# EAGLE library part SX1231 (library IntegerLabs)
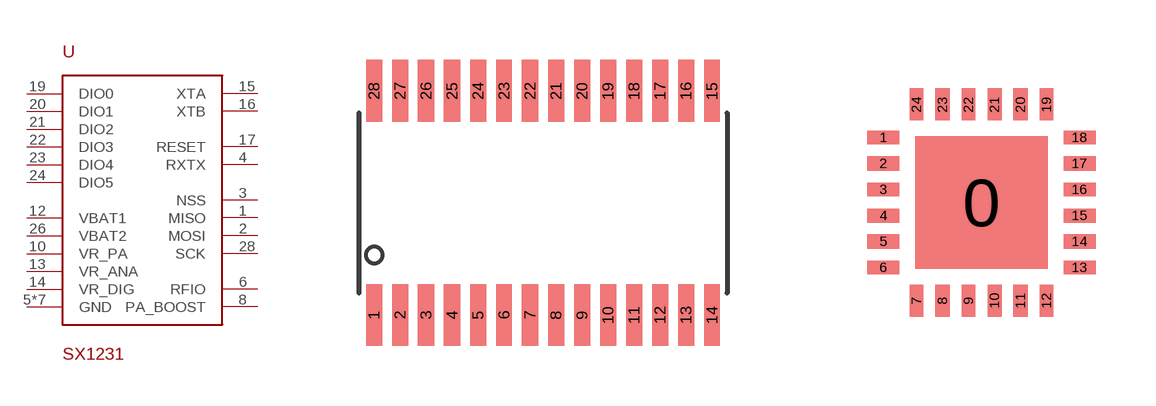
[diagram p30: symbol with the pads of TSSOP-28; footprints TSSOP-28, QFN-24]

Designator prefix -

## SX1231TSSOP  [TSSOP-28]
1  MISO
2  MOSI
3  NSS
4  RXTX
5  GND
6  RFIO
7  GND
8  PA_BOOST
9  GND
10  VR_PA
11  GND
12  VBAT1
13  VR_ANA
14  VR_DIG
15  XTA
16  XTB
17  RESET
18  GND
19  DIO0
20  DIO1
21  DIO2
22  DIO3
23  DIO4
24  DIO5
25  GND
26  VBAT2
27  GND
28  SCK

## SX1231  [QFN-24]
0  GND
1  VBAT1
2  VR_ANA
3  VR_DIG
4  XTA
5  XTB
6  RESET
7  DIO0
8  DIO1
9  DIO2
10  DIO3
11  DIO4
12  DIO5
13  VBAT2
14  GND
15  SCK
16  MISO
17  MOSI
18  NSS
19  RXTX
20  GND
21  RFIO
22  GND
23  PA_BOOST
24  VR_PA

## Footprint TSSOP-28 (pad centres in mm)
smd 0.4 x 1.55: 1 -4.55,-2.8; 2 -3.9,-2.8; 3 -3.25,-2.8; 4 -2.6,-2.8; 5 -1.95,-2.8; 6 -1.3,-2.8; 7 -0.65,-2.8; 8 0,-2.8; 9 0.65,-2.8; 10 1.3,-2.8; 11 1.95,-2.8; 12 2.6,-2.8; 13 3.25,-2.8; 14 3.9,-2.8; 15 3.9,2.8; 16 3.25,2.8; 17 2.6,2.8; 18 1.95,2.8; 19 1.3,2.8; 20 0.65,2.8; 21 0,2.8; 22 -0.65,2.8; 23 -1.3,2.8; 24 -1.95,2.8; 25 -2.6,2.8; 26 -3.25,2.8; 27 -3.9,2.8; 28 -4.55,2.8

## Footprint QFN-24 (pad centres in mm)
smd 3.3 x 3.3: 0 0,0
smd 0.8 x 0.35: 1 -2.45,1.625; 2 -2.45,0.975; 3 -2.45,0.325; 4 -2.45,-0.325; 5 -2.45,-0.975; 6 -2.45,-1.625; 13 2.45,-1.625; 14 2.45,-0.975; 15 2.45,-0.325; 16 2.45,0.325; 17 2.45,0.975; 18 2.45,1.625
smd 0.35 x 0.8: 7 -1.625,-2.45; 8 -0.975,-2.45; 9 -0.325,-2.45; 10 0.325,-2.45; 11 0.975,-2.45; 12 1.625,-2.45; 19 1.625,2.45; 20 0.975,2.45; 21 0.325,2.45; 22 -0.325,2.45; 23 -0.975,2.45; 24 -1.625,2.45